# EAGLE library part TPS54625 (library custom)
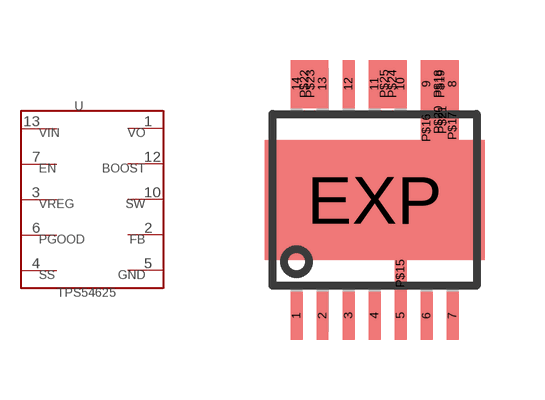
[diagram p3: symbol with the pads of HTSSOP14PWP; footprint HTSSOP14PWP]

Designator prefix -

## TPS54625  [HTSSOP14PWP]
1  VO
2  FB
3  VREG
4  SS
5  GND
6  PGOOD
7  EN
10  SW
12  BOOST
13  VIN

## Footprint HTSSOP14PWP (pad centres in mm)
TPS54625PWP (R-PDSO-G14) PowerPAD (TM) 14 pol. PLASTIC SMALL-OUTLINE PACKAGE Source:http://download.siliconexpert.com/pdfs/2013/9/1/4/45/53/39/txn_/manual/733tps54625.pdf
smd 0.3 x 1.2: 1 -1.95,-2.9; 2 -1.3,-2.9; 3 -0.65,-2.9; 4 0,-2.9; 5 0.65,-2.9; 6 1.3,-2.9; 7 1.95,-2.9; 8 1.95,2.9; 9 1.3,2.9; 10 0.65,2.9; 11 0,2.9; 12 -0.65,2.9; 13 -1.3,2.9; 14 -1.95,2.9; P$15 0.65,-1.85; P$16 1.3,1.8; P$17 1.95,1.85; P$18 1.6,2.9; P$19 1.65,2.9; P$20 1.6,2; P$21 1.7,2; P$22 -1.75,2.9; P$23 -1.6,2.9; P$24 0.45,2.9; P$25 0.25,2.9
smd 5.5 x 3: EXP 0,0